# Altium footprint library soic.PcbLib: 12 footprints
Each footprint in its own frame and in the unit in brackets; x right, y up, seen from the top. Pads: shape width x height; smd on the part's side, far side on the other; paste and mask are expansions set on the pad; w line width, h text height; cw(c..) or ccw(c..) is an arc to the next point about the centre after c.
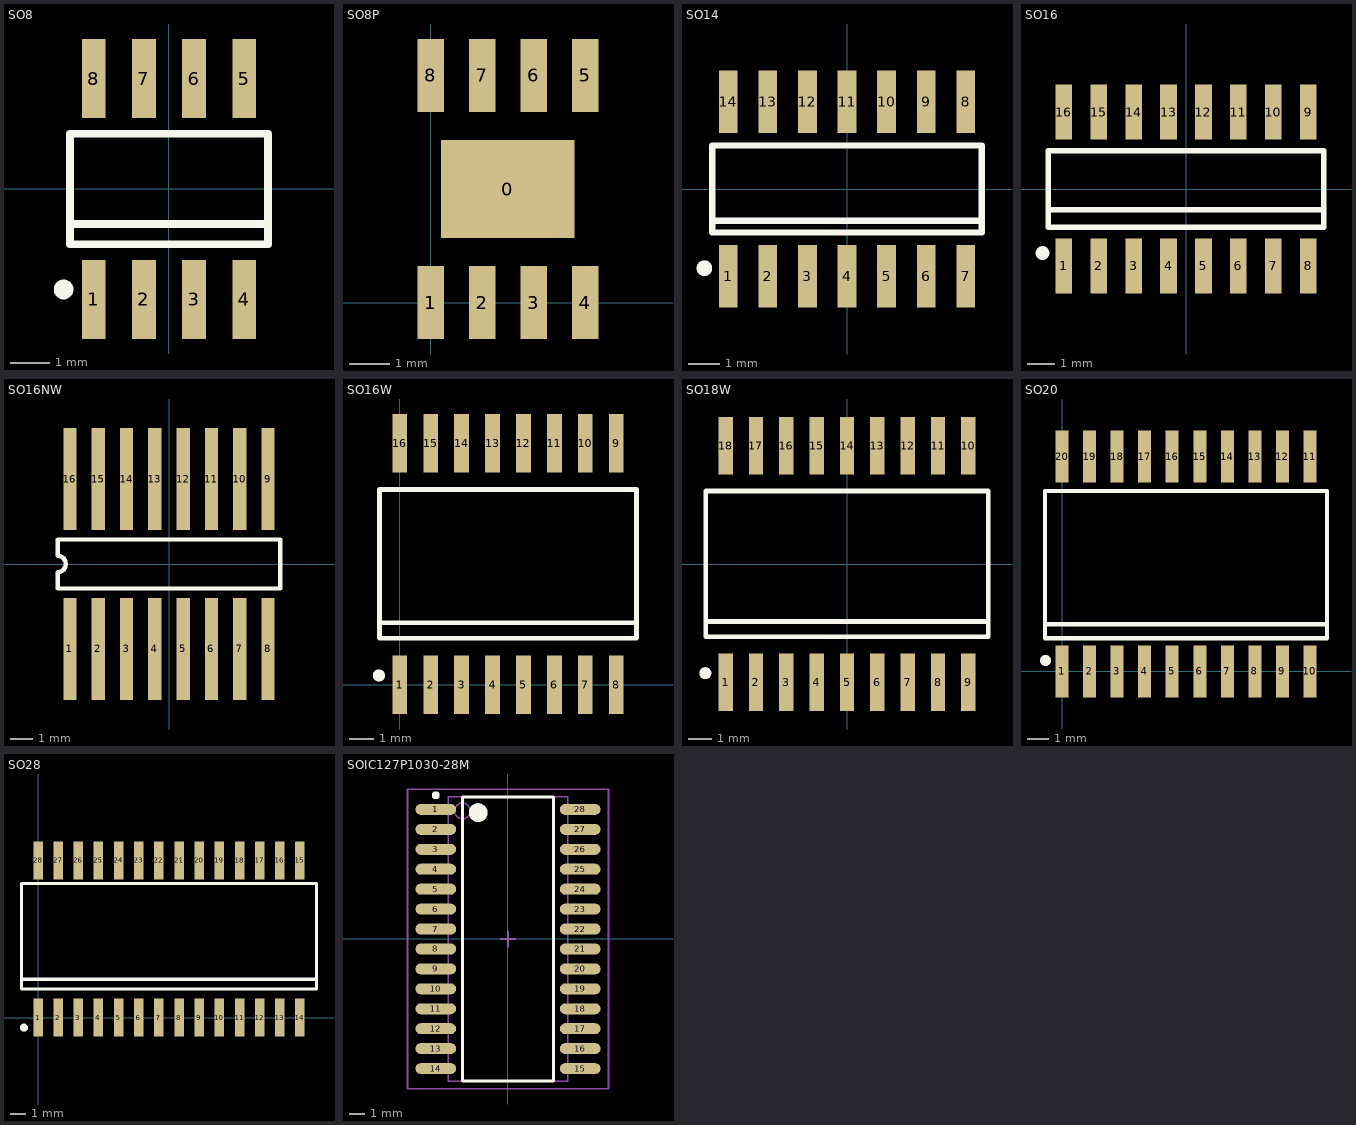
[diagram p0: the footprints below, top view; thin cyan lines are the x and y axes]

## SO4 [mm]
3D body "User Library-SOIC4-1.step": height 2.41, standoff -2.41, extent -4.508,-1.905 5.779,3.683

## SO8 [mm] "Small Outline; 8 Leads; Body Width 3.7 mm; Pitch 1.27 mm"
height 1.65
pads (8):
  rect 0.6x2 smd: 1(-1.905,-2.794) 2(-0.635,-2.794) 3(0.635,-2.794) 4(1.905,-2.794) 5(1.905,2.794) 6(0.635,2.794) 7(-0.635,2.794) 8(-1.905,2.794)
Top Overlay:
  circle w0.25: c-2.665,-2.54 r0.125
  lines w0.2: -2.5,-0.881 2.5,-0.881 ; -2.5,-1.397 2.5,-1.397 2.5,1.397 -2.5,1.397 -2.5,-1.397
3D body "SW3dPS-SOIC08-150.step": height 1.75, standoff 0, extent -2.4,-2.9 2.4,2.9

## SO8P [mm] "PowerPad"
pads (9):
  rect 3.3x2.41 smd: 0(1.9,2.8)
  rect 0.65x1.8 smd: 1(0,0) 2(1.27,0) 3(2.54,0) 4(3.81,0) 5(3.81,5.6) 6(2.54,5.6) 7(1.27,5.6) 8(0,5.6)

## SO14 [mm] "Small Outline; 14 Leads; Body Width 3.9 mm; Pitch 1.27 mm"
height 1.75
pads (14):
  rect 0.6x2 smd: 1(-3.81,-2.794) 2(-2.54,-2.794) 3(-1.27,-2.794) 4(0,-2.794) 5(1.27,-2.794) 6(2.54,-2.794) 7(3.81,-2.794) 8(3.81,2.794) 9(2.54,2.794) 10(1.27,2.794) 11(0,2.794) 12(-1.27,2.794) 13(-2.54,2.794) 14(-3.81,2.794)
Top Overlay:
  circle w0.25: c-4.572,-2.54 r0.125
  lines w0.2: -4.318,-1.016 4.318,-1.016 ; -4.318,-1.397 4.318,-1.397 4.318,1.397 -4.318,1.397 -4.318,-1.397
3D body "SW3dPS-SOIC14-150.step": height 1.75, standoff 0, extent -4.275,-2.9 4.275,2.9

## SO16 [mm] "Small Outline; 16 Leads; Body Width 3.9 mm; Pitch 1.27 mm"
height 1.75
pads (16):
  rect 0.6x2 smd: 1(-4.445,-2.794) 2(-3.175,-2.794) 3(-1.905,-2.794) 4(-0.635,-2.794) 5(0.635,-2.794) 6(1.905,-2.794) 7(3.175,-2.794) 8(4.445,-2.794) 9(4.445,2.794) 10(3.175,2.794) 11(1.905,2.794) 12(0.635,2.794) 13(-0.635,2.794) 14(-1.905,2.794) 15(-3.175,2.794) 16(-4.445,2.794)
Top Overlay:
  circle w0.25: c-5.207,-2.324 r0.125
  lines w0.2: -5,-0.762 5,-0.762 ; -5,-1.397 -5,1.397 5,1.397 5,-1.397 -5,-1.397
3D body "SW3dPS-SOIC16-150.step": height 1.75, standoff 0, extent -4.9,-2.9 4.9,2.9

## SO16NW [mm]
pads (16):
  rect 0.6x4.572 smd: 1(-4.445,-3.81) 2(-3.175,-3.81) 3(-1.905,-3.81) 4(-0.635,-3.81) 5(0.635,-3.81) 6(1.905,-3.81) 7(3.175,-3.81) 8(4.445,-3.81) 9(4.445,3.81) 10(3.175,3.81) 11(1.905,3.81) 12(0.635,3.81) 13(-0.635,3.81) 14(-1.905,3.81) 15(-3.175,3.81) 16(-4.445,3.81)
Top Overlay:
  lines w0.2: -5,-1.1 5,-1.1 5,1.1 -5,1.1 -5,0.367 cw(c-5,0) -5,-0.367 -5,-1.1

## SO16W [mm]
pads (16):
  rect 0.6x2.4 smd: 1(0,0) 2(1.27,0) 3(2.54,0) 4(3.81,0) 5(5.08,0) 6(6.35,0) 7(7.62,0) 8(8.89,0) 9(8.89,9.906) 10(7.62,9.906) 11(6.35,9.906) 12(5.08,9.906) 13(3.81,9.906) 14(2.54,9.906) 15(1.27,9.906) 16(0,9.906)
Top Overlay:
  circle w0.25: c-0.85,0.381 r0.125
  lines w0.2: -0.83,2.543 9.72,2.543 ; -0.83,1.906 -0.83,4.321 -0.83,5.591 -0.83,8.006 9.72,8.006 9.72,1.906 -0.83,1.906
3D body "SW3dPS-SOIC16-300.step": height 2.65, standoff 0, extent -0.705,-0.14 9.595,10.16

## SO18W [mm]
pads (18):
  rect 0.6x2.4 smd: 1(-5.08,-4.953) 2(-3.81,-4.953) 3(-2.54,-4.953) 4(-1.27,-4.953) 5(0,-4.953) 6(1.27,-4.953) 7(2.54,-4.953) 8(3.81,-4.953) 9(5.08,-4.953) 10(5.08,4.953) 11(3.81,4.953) 12(2.54,4.953) 13(1.27,4.953) 14(0,4.953) 15(-1.27,4.953) 16(-2.54,4.953) 17(-3.81,4.953) 18(-5.08,4.953)
Top Overlay:
  circle w0.25: c-5.93,-4.572 r0.125
  lines w0.2: -5.91,-2.41 5.91,-2.41 ; -5.91,-3.047 5.91,-3.047 5.91,3.053 -5.91,3.053 -5.91,0.638 -5.91,-0.632 -5.91,-3.047
3D body "User Library-SOIC18-300.step": height 2.65, standoff 0, extent -5.765,-5.15 5.765,5.15

## SO20 [mm] "Small Outline; 20 Leads; Body Width 3.9 mm; Pitch 1.27 mm"
height 1.75
pads (20):
  rect 0.6x2.4 smd: 1(0,0) 2(1.27,0) 3(2.54,0) 4(3.81,0) 5(5.08,0) 6(6.35,0) 7(7.62,0) 8(8.89,0) 9(10.16,0) 10(11.43,0) 11(11.43,9.906) 12(10.16,9.906) 13(8.89,9.906) 14(7.62,9.906) 15(6.35,9.906) 16(5.08,9.906) 17(3.81,9.906) 18(2.54,9.906) 19(1.27,9.906) 20(0,9.906)
Top Overlay:
  circle w0.25: c-0.762,0.508 r0.125
  lines w0.2: -0.785,2.172 12.215,2.172 ; -0.785,1.524 12.215,1.524 12.215,8.319 -0.785,8.319 -0.785,1.524
3D body "SW3dPS-SOIC20-300.step": height 2.65, standoff 0, extent -0.685,-0.191 12.115,10.109

## SO28 [mm] "Small Outline; 28 Leads; Body Width 8.38 mm; Pitch 1.27 mm"
height 3
pads (28):
  rect 0.6x2.4 smd: 1(0,0) 2(1.27,0) 3(2.54,0) 4(3.81,0) 5(5.08,0) 6(6.35,0) 7(7.62,0) 8(8.89,0) 9(10.16,0) 10(11.43,0) 11(12.7,0) 12(13.97,0) 13(15.24,0) 14(16.51,0) 15(16.51,9.906) 16(15.24,9.906) 17(13.97,9.906) 18(12.7,9.906) 19(11.43,9.906) 20(10.16,9.906) 21(8.89,9.906) 22(7.62,9.906) 23(6.35,9.906) 24(5.08,9.906) 25(3.81,9.906) 26(2.54,9.906) 27(1.27,9.906) 28(0,9.906)
Top Overlay:
  circle w0.25: c-0.889,-0.635 r0.125
  lines w0.2: -1.045,2.413 17.555,2.413 ; -1.045,8.445 17.555,8.445
  lines w0.203: -1.045,8.445 -1.045,1.807 17.555,1.807 17.555,8.445
3D body "SW3dPS-SOIC28-300.step": height 2.65, standoff 0, extent -0.695,-0.07 17.205,10.23

## SO36P [mm]
3D body "User Library-SO36.step": height 7.98, standoff -7.98, extent -9.005,-5.742 5.195,-2.242

## SOIC127P1030-28M [mm]
pads (28):
  oval 2.6x0.7 smd: 1(-4.6,8.255) 2(-4.6,6.985) 3(-4.6,5.715) 4(-4.6,4.445) 5(-4.6,3.175) 6(-4.6,1.905) 7(-4.6,0.635) 8(-4.6,-0.635) 9(-4.6,-1.905) 10(-4.6,-3.175) 11(-4.6,-4.445) 12(-4.6,-5.715) 13(-4.6,-6.985) 14(-4.6,-8.255) 15(4.6,-8.255) 16(4.6,-6.985) 17(4.6,-5.715) 18(4.6,-4.445) 19(4.6,-3.175) 20(4.6,-1.905) 21(4.6,-0.635) 22(4.6,0.635) 23(4.6,1.905) 24(4.6,3.175) 25(4.6,4.445) 26(4.6,5.715) 27(4.6,6.985) 28(4.6,8.255)
Top Overlay:
  circle w0.25: c-4.6,9.155 r0.125
  circle w0.6: c-1.9,8.05 r0.3
  lines w0.2: -2.9,-9.05 -2.9,9.05 2.9,9.05 2.9,-9.05 -2.9,-9.05
Mechanical 13:
  circle w0.1: c-2.9,8.155 r0.5
  lines w0.1: -3.8,-9.055 -3.8,9.055 3.8,9.055 3.8,-9.055 -3.8,-9.055
Mechanical 15:
  lines w0.1: -0.5,0 0.5,0 ; 0,-0.5 0,0.5 ; -6.4,-9.55 -6.4,9.55 6.4,9.55 6.4,-9.55 -6.4,-9.55
3D body: height 2.65, standoff 0, extent -3.8,-9.055 3.8,9.055